# Altium footprint library PASSIVE_THD.PCBLIB: 248 footprints (part 8 of 16)
Each footprint in its own frame and in the unit in brackets; x right, y up, seen from the top. Pads: shape width x height; smd on the part's side, far side on the other; paste and mask are expansions set on the pad; w line width, h text height; cw(c..) or ccw(c..) is an arc to the next point about the centre after c.
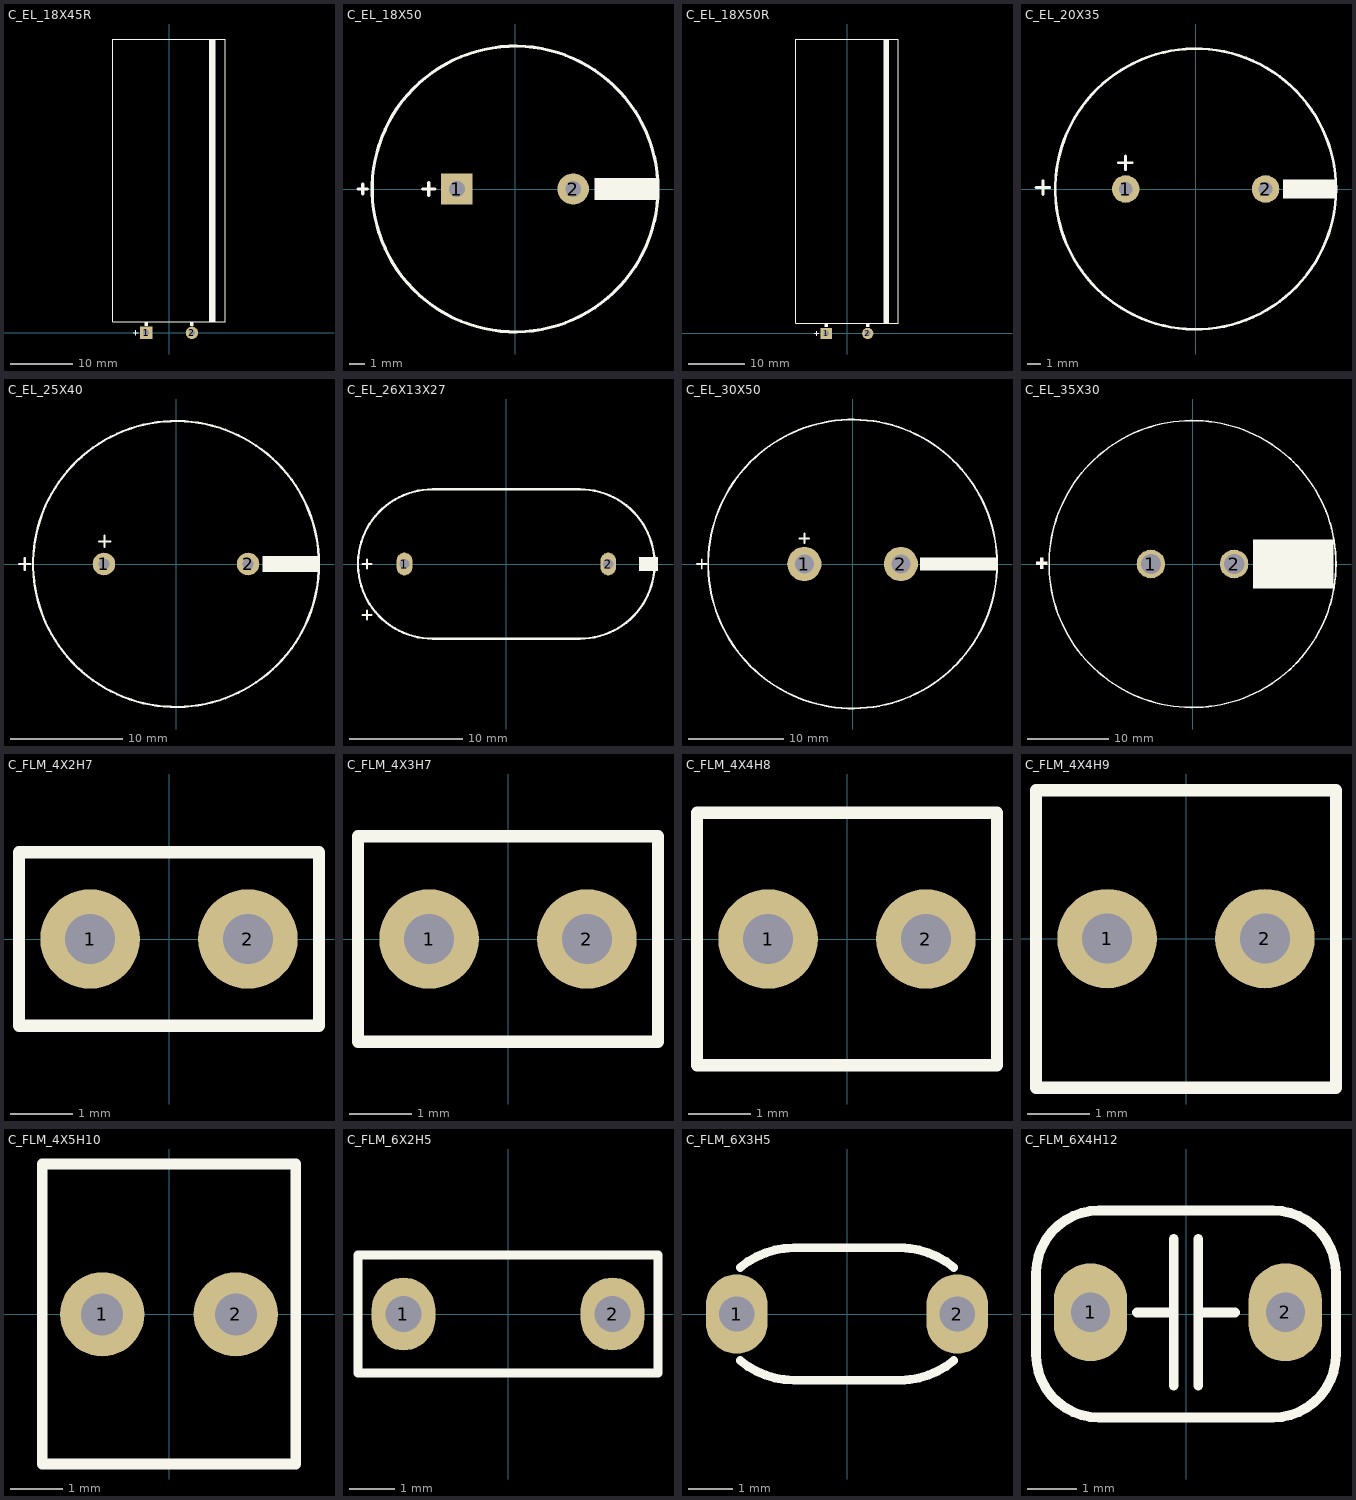
[diagram p7: the footprints below, top view; thin cyan lines are the x and y axes]

## C_EL_18X45R [mm] "Capacitor Electrolythic, D18X45H pitch: 7.4mm"
height 40
pads (2):
  rect 2x2 hole 1: 1(-3.7,0)
  round 2 hole 1: 2(3.7,0)
TopOverlay:
  region: 4,1.8 3.4,1.8 3.4,1.1 4,1.1
  rectangle: -4,1.1 -3.4,1.8
  rectangle: 6.5,1.8 7.5,47.5
  lines w0.2: -5.8,0 -5,0 ; -5.4,-0.4 -5.4,0.4 ; -9.1,1.8 -9.1,47.5 9.1,47.5 9.1,1.8 -9.1,1.8
3D body "cap_el_horizontal_d18_h45_p7.5_w0.8.stp": height 18.08, standoff -3, extent -8.991,-0.4 8.997,47.41

## C_EL_18X50 [mm] "Capacitor Electrolythic, D18X50H pitch: 7.4mm"
height 40
pads (2):
  rect 2x2 hole 1: 1(-3.7,0)
  round 2 hole 1: 2(3.7,0)
TopOverlay:
  circle w0.2: c0,0 r9.1
  rectangle: 5.07,-0.7 9.1,0.7
  lines w0.2: -10,0 -9.4,0 ; -9.7,-0.3 -9.7,0.3 ; -5.9,0 -5.1,0 ; -5.5,-0.4 -5.5,0.4
3D body "cap_el_vertical_d18_h50_p7.5_w0.8.stp": height 50.01, standoff -3, extent -8.99,-8.999 8.997,8.999

## C_EL_18X50R [mm] "Capacitor Electrolythic, D18X50H pitch: 7.4mm"
height 40
pads (2):
  rect 2x2 hole 1: 1(-3.7,0)
  round 2 hole 1: 2(3.7,0)
TopOverlay:
  region: 4,1.8 3.4,1.8 3.4,1.1 4,1.1
  rectangle: -4,1.1 -3.4,1.8
  rectangle: 6.5,1.8 7.5,52.5
  lines w0.2: -5.8,0 -5,0 ; -5.4,-0.4 -5.4,0.4 ; -9.1,1.8 -9.1,52.5 9.1,52.5 9.1,1.8 -9.1,1.8
3D body "cap_el_horizontal_d18_h50_p7.5_w0.8.stp": height 18.1, standoff -3, extent -8.99,-0.4 8.997,52.41

## C_EL_20X35 [mm] "Cap Elec, D20.0X35.0H pitch: 10.0mm, RB.4/.8"
pads (2):
  round 2 hole 1: 1(-5.08,0) 2(5.08,0)
TopOverlay:
  circle w0.2: c0,0 r10.2
  rectangle: 6.34,-0.7 10.2,0.7
  lines w0.2: -11.6,0.1 -10.6,0.1 ; -11.1,-0.4 -11.1,0.6 ; -5.6,1.9 -4.6,1.9 ; -5.1,1.4 -5.1,2.4
3D body "User Library-Cap electrolitic radial 20x35.STEP": height 35.8, standoff -0.7, extent -9.996,-9.988 9.997,9.998

## C_EL_25X40 [mm] "Cap Elec, D25.0X40.0H pitch: 12.8mm, RB.5/1"
pads (2):
  round 2 hole 1: 1(-6.4,0) 2(6.4,0)
TopOverlay:
  circle w0.2: c0,0 r12.7
  rectangle: 7.66,-0.7 12.7,0.7
  lines w0.2: -13.95,0 -12.95,0 ; -13.45,-0.5 -13.45,0.5 ; -6.85,2 -5.85,2 ; -6.35,1.5 -6.35,2.5
3D body "User Library-CE_R530_D1000_H1750.step": height 42.2, standoff -2.5, extent -12.7,-12.7 12.7,12.7

## C_EL_26X13X27 [mm] "Cap Elec, 26X13X27mm, 18mm pitch"
height 27
pads (2):
  oval 1.4x2 hole 0.9: 1(-9,0) 2(9,0)
TopOverlay:
  rectangle: 11.7,-0.6 13.4,0.6
  lines w0.2: -12.7,-4.5 -11.9,-4.5 ; -12.7,0 -11.9,0 ; -12.3,-4.9 -12.3,-4.1 ; -12.3,-0.4 -12.3,0.4 ; -6.5,-6.6 cw(c-6.5,0) -6.5,6.6 6.5,6.6 cw(c6.5,0) 6.5,-6.6 -6.5,-6.6
3D body: height 3, standoff -2, extent 8.7,-0.299 9.298,0.3
3D body: height 27, standoff 0, extent -13,-6.5 0,6.5
3D body: height 27, standoff 0, extent 0,-6.5 13,6.5
3D body: height 27, standoff 0, extent -7,-6.5 7,6.5
3D body: height 3, standoff -2, extent -9.297,-0.299 -8.7,0.299

## C_EL_30X50 [mm] "Cap Elec, D30.0X50.0H pitch: 10.0mm"
pads (2):
  round 3.6 hole 2: 1(-5.08,0) 2(5.08,0)
TopOverlay:
  circle w0.2: c0,0 r15.2
  rectangle: 7.1,-0.7 15.2,0.7
  lines w0.2: -16.38,0 -15.38,0 ; -15.88,-0.5 -15.88,0.5 ; -5.58,2.7 -4.58,2.7 ; -5.08,2.2 -5.08,3.2
3D body "User Library-Assy_CE_R400_D1200_H2000.STEP": height 50.8, standoff -6.89, extent -15.222,-15.2 15.24,15.28

## C_EL_35X30 [mm] "Cap Elec, D35.0X30.0H pitch: 10.0mm, 470uF/400V, RB.44/1.3"
height 33
pads (2):
  round 3.5 / inner round 3.5 / far side oval 3.5x5.5 hole 2.5: 1(-5.1,0) 2(5.1,0)
TopOverlay:
  circle w0.2: c0,0 r17.6
  region: -18.3,-0.6 -18.3,0.8 -18.7,0.8 -18.7,-0.6
  rectangle: -19.2,-0.1 -17.8,0.3
  rectangle: 7.4,-3 17.3,3
3D body "User Library-el_cap_470uF-400V.step": height 46.5, standoff -3.7, extent -17.5,-17.474 17.5,17.474

## C_FLM_4X2H7 [mm] "Capacitor, THT, Metallized Polyester Film 4.6X2.5X6.8mm"
height 7
pads (2):
  round 1.6 hole 0.8: 1(-1.27,0) 2(1.27,0)
TopOverlay:
  lines w0.2: -2.413,-1.397 2.413,-1.397 2.413,1.397 -2.413,1.397 -2.413,-1.397
3D body "FILM_RED_P250L460W250H700PD40.step": height 7, standoff -5, extent -2.3,-1.25 2.3,1.25

## C_FLM_4X3H7 [mm] "Capacitor, THT, Metallized Polyester Film, 4.6x3.0x7.5mm"
height 7.5
pads (2):
  round 1.6 hole 0.8: 1(-1.27,0) 2(1.27,0)
TopOverlay:
  lines w0.2: -2.413,-1.651 2.413,-1.651 2.413,1.651 -2.413,1.651 -2.413,-1.651
3D body "FILM_RED_P250L460W300H750PD40.step": height 7.5, standoff -5, extent -2.3,-1.5 2.3,1.5

## C_FLM_4X4H8 [mm] "Capacitor, THT, Metallized Polyester Film with 4.6x3.8x8.5mm LxTxH"
height 8.5
pads (2):
  round 1.6 hole 0.8: 1(-1.27,0) 2(1.27,0)
TopOverlay:
  lines w0.2: -2.413,-2.032 2.413,-2.032 2.413,2.032 -2.413,2.032 -2.413,-2.032
3D body "FILM_RED_P250L460W380H850PD40.step": height 8.5, standoff -5, extent -2.3,-1.9 2.3,1.9

## C_FLM_4X4H9 [mm] "Capacitor, THT, Metallized Polyester Film, 4.6x4.6x9.2mm"
height 9
pads (2):
  round 1.6 hole 0.8: 1(-1.27,0) 2(1.27,0)
TopOverlay:
  lines w0.2: -2.413,-2.397 -2.413,2.384 2.413,2.384 2.413,-2.397 -2.413,-2.397
3D body "FILM_RED_P250L460W460H900PD40.step": height 9, standoff -5, extent -2.3,-2.3 2.3,2.3

## C_FLM_4X5H10 [mm] "Capacitor, THT, Metallized Polyester Film, 4.6x5.5x10.6mm"
height 10
pads (2):
  round 1.6 hole 0.8: 1(-1.27,0) 2(1.27,0)
TopOverlay:
  lines w0.2: -2.413,-2.845 -2.413,2.859 2.413,2.859 2.413,-2.845 -2.413,-2.845
3D body "FILM_RED_P250L460W550H1000PD40.step": height 10, standoff -5, extent -2.3,-2.75 2.3,2.75

## C_FLM_6X2H5 [mm] "CAP, FILM MKT, 6.3X2.4mm, pitch: 4.7mm"
height 6.5
pads (2):
  oval 1.4x1.6 hole 0.8 mask+0.075: 1(-2.3,0) 2(2.3,0)
TopOverlay:
  lines w0.2: -3.3,-1.3 -3.3,1.3 3.3,1.3 3.3,-1.3 -3.3,-1.3
3D body "cap.STEP": height 6.34, standoff -1.96, extent -3.15,-1.2 3.15,1.2

## C_FLM_6X3H5 [mm] "CAP, POLYESTER, 5.8X3.5mm pitch: 5.0mm"
pads (2):
  oval 1.4x1.8 hole 0.8: 1(-2.5,0) 2(2.5,0)
TopOverlay:
  lines w0.2: -2.421,-1.055 ccw(c-1.2,0.4) -1.2,-1.5 1.3,-1.5 ; -2.421,1.055 cw(c-1.2,-0.4) -1.2,1.5 1.3,1.5 ; 1.2,-1.5 ccw(c1.2,0.4) 2.421,-1.055 ; 1.2,1.5 cw(c1.2,-0.4) 2.421,1.055
3D body "CAP 6mm Adasi.STEP": height 8.5, standoff -25.12, extent -2.95,-1.9 3.05,1.9

## C_FLM_6X4H12 [mm] "Capacitor, THT, Metallized Polyester Film, 6x4x12mm"
height 120
pads (2):
  oval 1.5x2 hole 0.8: 1(-1.953,0.035) 2(2.032,0.035)
TopOverlay:
  lines w0.2: -1,0.032 -0.25,0.032 ; -0.25,-1.468 -0.25,1.532 ; 0.25,-1.468 0.25,1.532 ; 0.25,0.032 1,0.032 ; -3.069,-0.828 ccw(c-1.778,-0.828) -1.778,-2.119 1.778,-2.119 ccw(c1.778,-0.828) 3.069,-0.828 3.069,0.828 ccw(c1.778,0.828) 1.778,2.119 -1.778,2.119 ccw(c-1.778,0.828) -3.069,0.828 -3.069,-0.828
3D body "polyester capacitor.STEP": height 12, standoff -2.5, extent -3,-1.968 3,2.032